# Altium footprint library D2PACK.PcbLib: 1 footprints
Each footprint in its own frame and in the unit in brackets; x right, y up, seen from the top. Pads: shape width x height; smd on the part's side, far side on the other; paste and mask are expansions set on the pad; w line width, h text height; cw(c..) or ccw(c..) is an arc to the next point about the centre after c.
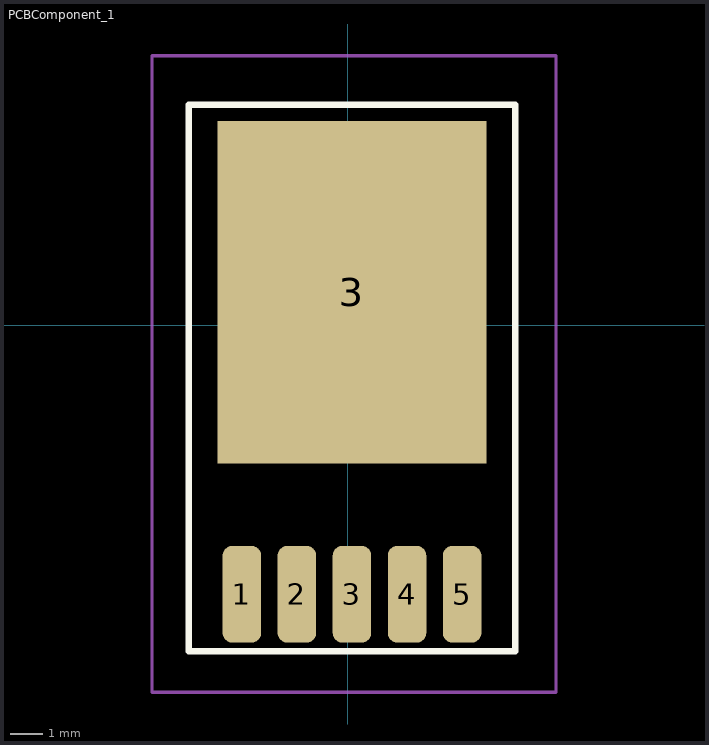
[diagram p0: the footprint, top view; thin cyan lines are the x and y axes]

## PCBComponent_1 [mil]
pads (6):
  rrect50% 47.24x118.7 smd: 1(-130,-330) 2(-62.5,-330) 3(5,-330) 4(72.5,-330) 5(140,-330)
  rect 329.92x419.69 smd: 3(5,40)
Top Overlay:
  lines w7.87: -195,-400 -195,-215 -195,270 35,270 205,270 205,-400 -195,-400
Mechanical 15:
  lines w3.94: -87.5,0 -2.5,0 ; 0,-85 0,0 ; 0,85 0,0 ; 85,0 0,0 ; -240,-450 -240,270 -240,330 255,330 255,-430 255,-450 -240,-450
3D body "TO263-5-1.stp": height 165.95, standoff 0, extent -188.34,-361.41 198.34,213.47